# Altium footprint library Opto_PS2801-4.PcbLib: 1 footprints
Each footprint in its own frame and in the unit in brackets; x right, y up, seen from the top. Pads: shape width x height; smd on the part's side, far side on the other; paste and mask are expansions set on the pad; w line width, h text height; cw(c..) or ccw(c..) is an arc to the next point about the centre after c.
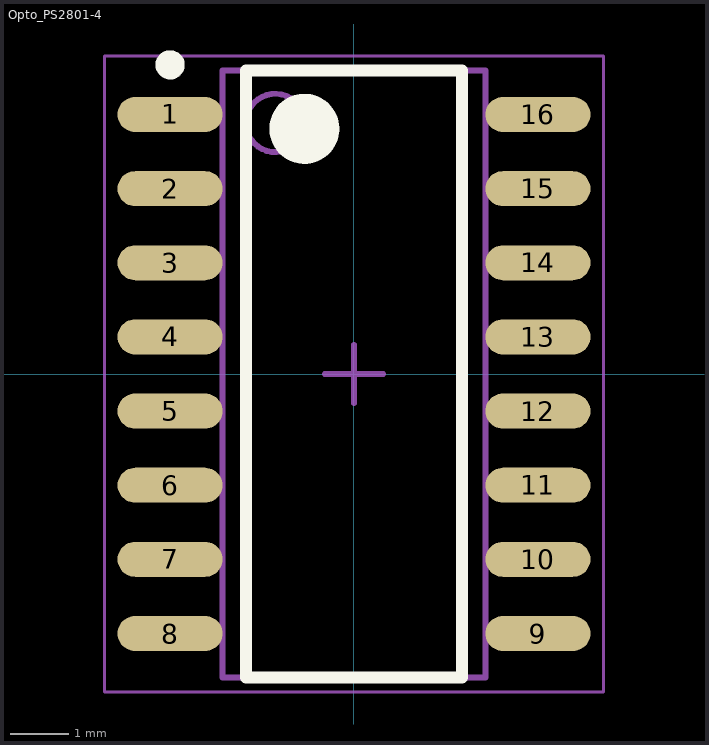
[diagram p0: the footprint, top view; thin cyan lines are the x and y axes]

## Opto_PS2801-4 [mm] "TSOP, 16-Leads, Body 10.35x4.40mm, Pitch 1.27mm, IPC Medium Density"
height 1.2
pads (16):
  oval 1.8x0.6 smd: 1(-3.15,4.445) 2(-3.15,3.175) 3(-3.15,1.905) 4(-3.15,0.635) 5(-3.15,-0.635) 6(-3.15,-1.905) 7(-3.15,-3.175) 8(-3.15,-4.445) 9(3.15,-4.445) 10(3.15,-3.175) 11(3.15,-1.905) 12(3.15,-0.635) 13(3.15,0.635) 14(3.15,1.905) 15(3.15,3.175) 16(3.15,4.445)
Top Overlay:
  circle w0.6: c-0.85,4.2 r0.3
  circle w0.25: c-3.15,5.295 r0.125
  lines w0.2: -1.85,-5.2 1.85,-5.2 1.85,5.2 -1.85,5.2 -1.85,-5.2
Mechanical 13:
  circle w0.1: c-1.35,4.3 r0.5
  lines w0.1: -2.25,-5.2 2.25,-5.2 2.25,5.2 -2.25,5.2 -2.25,-5.2
Mechanical 15:
  lines w0.05: -4.275,-5.45 4.275,-5.45 4.275,5.45 -4.275,5.45 -4.275,-5.45
  lines w0.1: -0.5,0 0.5,0 ; 0,-0.5 0,0.5
3D body: height 1.2, standoff 0.5, extent -2.25,-5.2 2.25,5.2